# EAGLE library part XI-PCBL-IV-HDR (library xess)
XILINX Parallel Cable IV Header
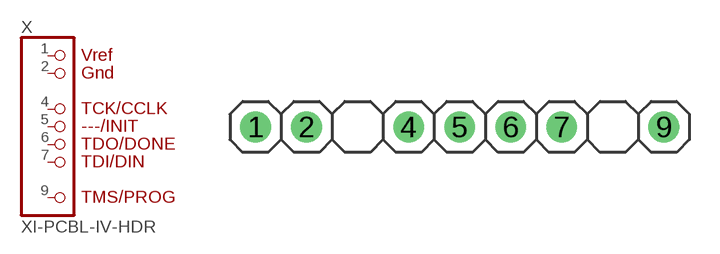
[diagram p43: symbol with the pads of XI-PCBL-IV-HDR; footprint XI-PCBL-IV-HDR]

Designator prefix X

## XI-PCBL-IV-HDR  [XI-PCBL-IV-HDR]
1  1  pas
2  2  pas
4  4  pas
5  5  pas
6  6  pas
7  7  pas
9  9  pas

## Footprint XI-PCBL-IV-HDR (pad centres in mm)
drill 1.016 round: 1 0,0; 2 2.54,0; 4 7.62,0; 5 10.16,0; 6 12.7,0; 7 15.24,0; 9 20.32,0